# Altium footprint library SMD Mechanical.PcbLib: 17 footprints (part 1 of 2)
Each footprint in its own frame and in the unit in brackets; x right, y up, seen from the top. Pads: shape width x height; smd on the part's side, far side on the other; paste and mask are expansions set on the pad; w line width, h text height; cw(c..) or ccw(c..) is an arc to the next point about the centre after c.
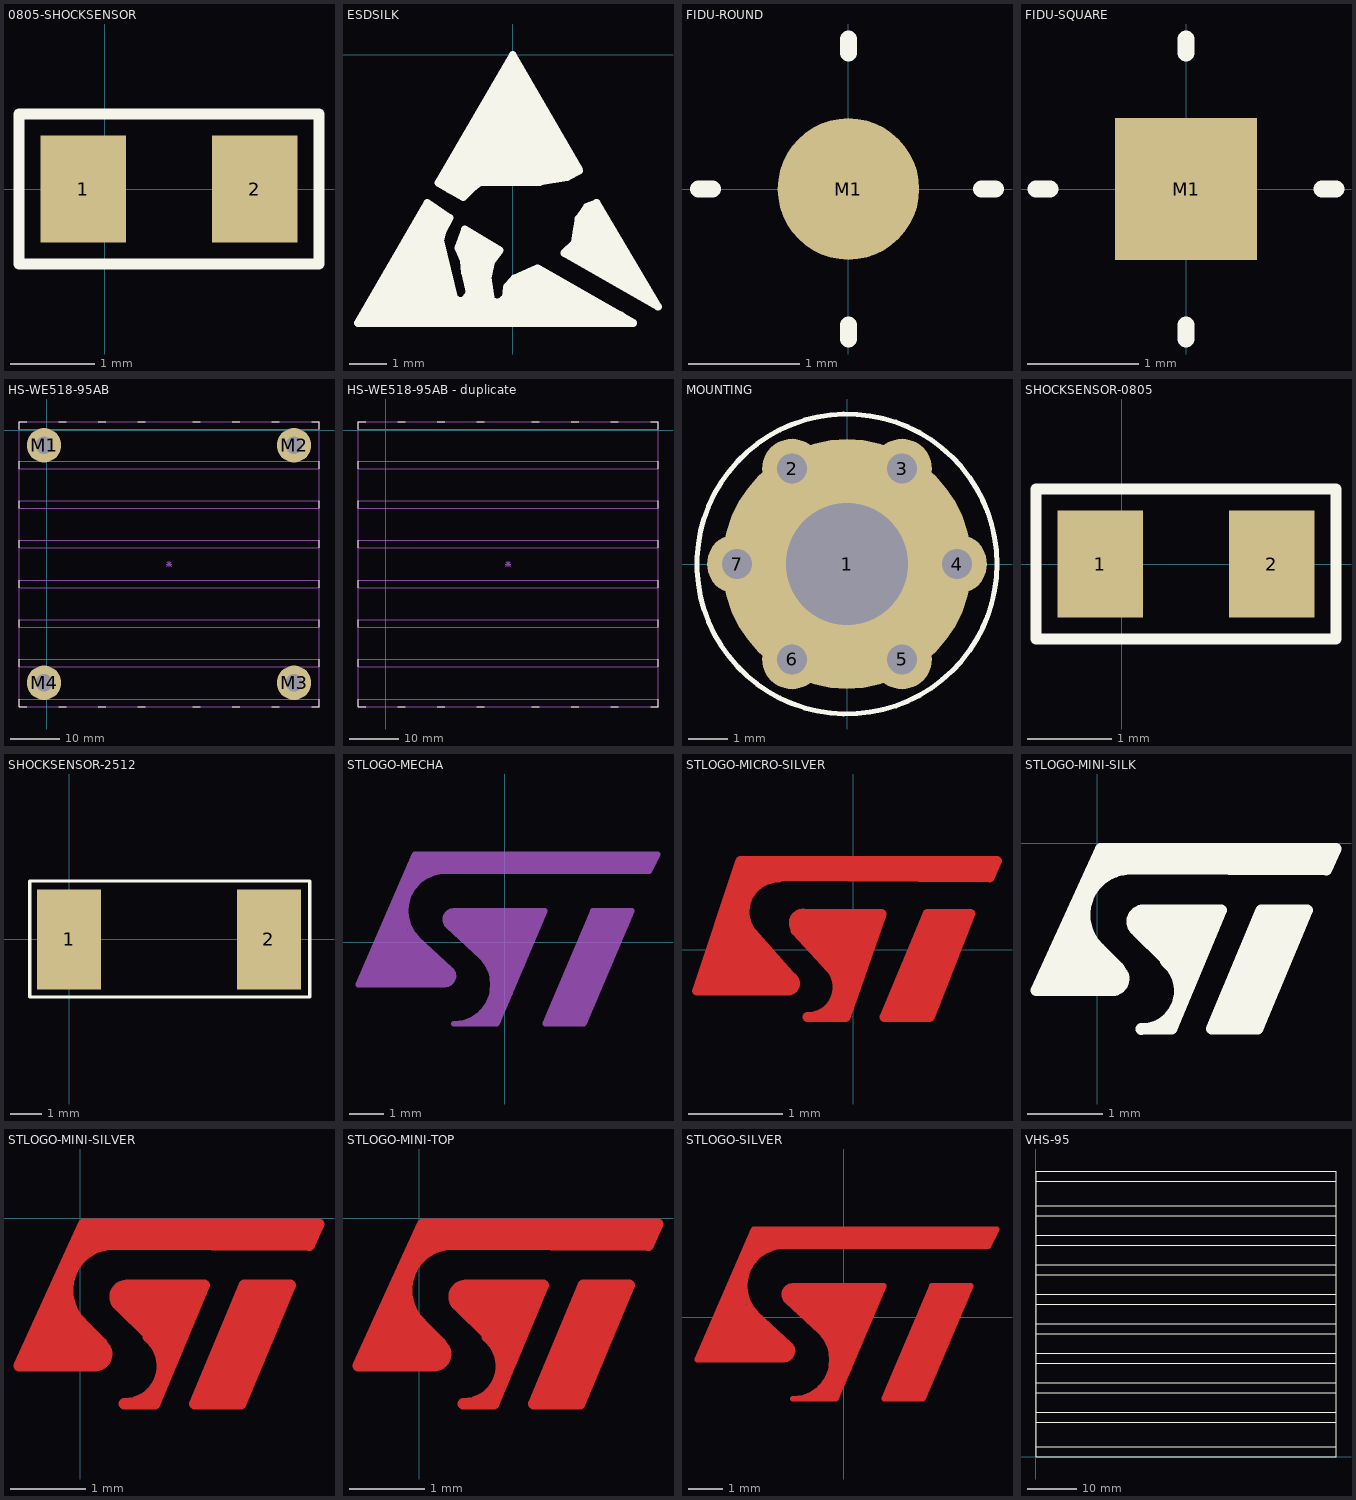
[diagram p0: the footprints below, top view; thin cyan lines are the x and y axes]

## 0805-SHOCKSENSOR [mil] "SHOCKSENSOR"
pads (2):
  rect 40x50 smd: 1(-10,0) 2(70,0)
Top Overlay:
  lines w5: -40,-35 100,-35 100,35 -40,35 -40,-35
3D body: height 30, standoff 0, extent 68,-25 84,25
3D body: height 29, standoff 28, extent 20,-22 69,22
3D body: height 30, standoff 0, extent -24,-25 -8,25
3D body: height 28, standoff 0, extent -10,-24 69,24
3D body: height 29, standoff 28, extent -12.5,-20 36.5,-11
3D body: height 29, standoff 28, extent 0,7 10,17
3D body: height 29, standoff 28, extent -2.08,4.92 12.08,19.08

## ESDSILK [mil]
Top Overlay:
  lines w8: -163.5,-283.19 -90.5,-156.19 -66.5,-172.19 -74.5,-187.19 -76.5,-196.19 -61.5,-257.19 -55.5,-260.19 -50.5,-258.19 -45.5,-251.19 -50.5,-230.19 -51.5,-217.19 -57.5,-204.19 -50.5,-184.19 -13.5,-206.19 -22.5,-218.19 -26.5,-235.19 -22.5,-260.19 -13.5,-261.19 -7.5,-256.19 -6.5,-245.19 1.5,-236.19 26.5,-225.19 127.5,-283.19 -163.5,-283.19 ; -78.5,-135.19 0,0 70.5,-122.19 57.5,-129.19 28.5,-134.19 -35.5,-135.19 -44.5,-142.19 -52.5,-150.19 -78.5,-135.19 ; 54.5,-209.19 153.5,-266.19 88.5,-156.19 78.5,-160.19 69.5,-173.19 67.5,-184.19 65.5,-198.19 54.5,-209.19
  lines w15: 91.5,-273.19 112.5,-278.19 ; 125.5,-239.19 141.5,-253.19
  lines w25: -115.5,-259.19 -96.5,-226.19 -88.5,-273.19 -145.5,-273.19 -83.5,-172.19 -80.5,-179.19 -87.5,-193.19 -70.5,-271.19 -41.5,-271.19 ; -30.5,-208.19 -45.5,-201.19 -37.5,-219.19 -36.5,-264.19 -22.5,-273.19 1.5,-264.19 8.5,-248.19 26.5,-239.19 91.5,-273.19 ; -10.5,-273.19 68.5,-272.19 22.5,-258.19 ; -4.5,-88.19 22.5,-91.19 -1.5,-55.19 -33.5,-106.19 48.5,-110.19 0.5,-18.19 -63.5,-134.19 -53.5,-135.19 -35.5,-123.19 54.5,-118.19 ; 84.5,-171.19 71.5,-208.19 125.5,-239.19 88.5,-186.19

## FIDU-ROUND [mil]
pads (1):
  round 50 smd: M1(0,0)
Top Overlay:
  lines w6: -53,0 -48,0 ; 0,-53 0,-48 ; 0,48 0,53 ; 47,0 52,0

## FIDU-SQUARE [mil]
pads (1):
  rect 50x50 smd: M1(0,0)
Top Overlay:
  lines w6: -53,0 -48,0 ; 0,-53 0,-48 ; 0,48 0,53 ; 48,0 53,0

## HS-WE518-95AB [mm]
pads (4):
  round 7 hole 3.5: M1(-0.508,-3.048) M2(50.292,-3.048) M3(50.292,-51.308) M4(-0.508,-51.308)
Top Overlay:
  lines w0.203: -5.588,-54.61 -5.588,-56.134 -4.064,-56.134 ; -5.588,-48.057 -5.588,-46.533 ; -5.588,-40.005 -5.588,-38.481 ; -5.588,-31.953 -5.588,-30.429 ; -5.588,-23.901 -5.588,-22.377 ; -5.588,-15.85 -5.588,-14.326 ; -5.588,-7.798 -5.588,-6.274 ; -5.588,0.254 -5.588,1.778 -4.064,1.778 ; 2.464,-56.134 3.988,-56.134 ; 2.464,1.778 3.988,1.778 ; 10.516,-56.134 12.04,-56.134 ; 10.516,1.778 12.04,1.778 ; 18.567,-56.134 20.091,-56.134 ; 18.567,1.778 20.091,1.778 ; 29.693,-56.134 31.217,-56.134 ; 29.693,1.778 31.217,1.778 ; 37.744,-56.134 39.268,-56.134 ; 37.744,1.778 39.268,1.778 ; 45.796,-56.134 47.32,-56.134 ; 45.796,1.778 47.32,1.778 ; 53.848,-56.134 55.372,-56.134 55.372,-54.61 ; 53.848,1.778 55.372,1.778 55.372,0.254 ; 55.372,-48.057 55.372,-46.533 ; 55.372,-40.005 55.372,-38.481 ; 55.372,-31.953 55.372,-30.429 ; 55.372,-23.901 55.372,-22.377 ; 55.372,-15.85 55.372,-14.326 ; 55.372,-7.798 55.372,-6.274
Mechanical 1:
  lines w0.203: -5.588,-54.61 55.372,-54.61 ; -5.588,-48.057 55.372,-48.057 ; -5.588,-46.533 55.372,-46.533 ; -5.588,-40.005 55.372,-40.005 ; -5.588,-38.481 55.372,-38.481 ; -5.588,-31.953 55.372,-31.953 ; -5.588,-30.429 55.372,-30.429 ; -5.588,-23.901 55.372,-23.901 ; -5.588,-22.377 55.372,-22.377 ; -5.588,-15.85 55.372,-15.85 ; -5.588,-14.326 55.372,-14.326 ; -5.588,-7.798 55.372,-7.798 ; -5.588,-6.274 55.372,-6.274 ; -5.588,0.254 55.372,0.254 55.372,1.778 ; 24.308,-27.178 24.892,-27.178 ; 24.479,-27.591 24.892,-27.178 ; 24.479,-26.765 24.892,-27.178 ; 24.892,-27.762 24.892,-27.178 ; 24.892,-26.594 24.892,-27.178 ; 25.305,-27.591 24.892,-27.178 ; 25.305,-26.765 24.892,-27.178 ; 25.476,-27.178 24.892,-27.178 ; -5.588,-56.134 -5.588,1.778 55.372,1.778 ; -5.588,-56.134 55.372,-56.134 ; -5.588,-56.134 55.372,-56.134 ; 55.372,-56.134 55.372,1.778
  text "Model 518-95AB" at -1.981,-11.1 h0.89
  text "Wakefield Engineering" at -1.981,-9.525 h0.89

## HS-WE518-95AB - duplicate [mil]
Top Overlay:
  lines w8: -220,-2150 -220,-2210 -160,-2210 ; -220,-1892 -220,-1832 ; -220,-1575 -220,-1515 ; -220,-1258 -220,-1198 ; -220,-941 -220,-881 ; -220,-624 -220,-564 ; -220,-307 -220,-247 ; -220,10 -220,70 -160,70 ; 97,-2210 157,-2210 ; 97,70 157,70 ; 414,-2210 474,-2210 ; 414,70 474,70 ; 731,-2210 791,-2210 ; 731,70 791,70 ; 1169,-2210 1229,-2210 ; 1169,70 1229,70 ; 1486,-2210 1546,-2210 ; 1486,70 1546,70 ; 1803,-2210 1863,-2210 ; 1803,70 1863,70 ; 2120,-2210 2180,-2210 2180,-2150 ; 2120,70 2180,70 2180,10 ; 2180,-1892 2180,-1832 ; 2180,-1575 2180,-1515 ; 2180,-1258 2180,-1198 ; 2180,-941 2180,-881 ; 2180,-624 2180,-564 ; 2180,-307 2180,-247
Mechanical 1:
  lines w8: -220,-2150 2180,-2150 ; -220,-1892 2180,-1892 ; -220,-1832 2180,-1832 ; -220,-1575 2180,-1575 ; -220,-1515 2180,-1515 ; -220,-1258 2180,-1258 ; -220,-1198 2180,-1198 ; -220,-941 2180,-941 ; -220,-881 2180,-881 ; -220,-624 2180,-624 ; -220,-564 2180,-564 ; -220,-307 2180,-307 ; -220,-247 2180,-247 ; -220,10 2180,10 2180,70 ; 957,-1070 980,-1070 ; 963.74,-1086.26 980,-1070 ; 963.74,-1053.74 980,-1070 ; 980,-1093 980,-1070 ; 980,-1047 980,-1070 ; 996.26,-1086.26 980,-1070 ; 996.26,-1053.74 980,-1070 ; 1003,-1070 980,-1070 ; -220,-2210 -220,70 2180,70 ; -220,-2210 2180,-2210 ; -220,-2210 2180,-2210 ; 2180,-2210 2180,70
  text "Model 518-95AB" at -78,-437 h35
  text "Wakefield Engineering" at -78,-375 h35

## MOUNTING [mil]
pads (7):
  round 250 hole 122.05: 1(0,0)
  round 60 hole 30: 2(-55,95.26) 3(55,95.26) 4(110,0) 5(55,-95.26) 6(-55,-95.26) 7(-110,0)
Top Overlay:
  circle w5: c0,0 r150

## SHOCKSENSOR-0805 [mil] "SHOCKSENSOR"
pads (2):
  rect 40x50 smd: 1(-10,0) 2(70,0)
Top Overlay:
  lines w5: -40,-35 -40,35 100,35 100,-35 -40,-35
3D body: height 29, standoff 28, extent -2.08,4.92 12.08,19.08
3D body: height 29, standoff 28, extent 0,7 10,17
3D body: height 29, standoff 28, extent -12.5,-20 36.5,-11
3D body: height 28, standoff 0, extent -10,-24 69,24
3D body: height 30, standoff 0, extent -24,-25 -8,25
3D body: height 29, standoff 28, extent 20,-22 69,22
3D body: height 30, standoff 0, extent 68,-25 84,25

## SHOCKSENSOR-2512 [mil] "SHOCKSENSOR"
pads (2):
  rect 80x125 smd: 1(0,0) 2(250,0)
Top Overlay:
  lines w4: -49,-72 301,-72 301,73 -49,73 -49,-12.32 -49,-71 -49,-72
3D body: height 29, standoff 28, extent 35.92,36.92 50.08,51.08
3D body: height 29, standoff 28, extent 38,39 48,49
3D body: height 29, standoff 28, extent 47,-50 123.5,-41
3D body: height 28, standoff 0, extent 23,-60 231,60
3D body: height 30, standoff 0, extent -5,-61 23,61
3D body: height 29, standoff 28, extent 123,-58 231,58
3D body: height 30, standoff 0, extent 231,-61 259,61

## STLOGO-MECHA [mil]
Mechanical 1:
  lines w6: -149,-49 -169,-49 ; -34,-89 -9,-89 -9,-84 -29,-84 -24,-79 -4,-79 -4,-74 -19,-74 -14,-69 1,-69 1,-64 -14,-64 -9,-59 6,-59 6,-54 -9,-54 -9,-49 6,-49 ; 51,-94 106,36 86,-94 141,36 81,-94 ; 166,86 -109,86 -104,91 171,91 171,96 -104,96 -164,-49 -104,86 -159,-49 -99,86 -104,71 -94,86 -74,81 -94,81 -94,76 -99,71 -114,56 -119,31 -154,-49 -64,-44 -149,-44 ; -169,-49 -69,-49 ccw(c-69,-39) -62.31,-31.57 -100.82,4.18 cw(c-69,36) -69,81 166,81 176,101 -104,101 -169,-49 ; -149,-44 -64,-39 -144,-39 -64,-34 -144,-34 -69,-29 -144,-29 -74,-24 -139,-24 -79,-19 -139,-19 -84,-14 -139,-14 -89,-9 -134,-9 -94,-4 -134,-4 -99,1 -129,1 -104,6 -129,6 -109,11 -124,11 -114,16 -124,16 -114,21 -119,21 -114,26 -119,26 -149,-44 ; -59,16 36,16 31,11 -49,11 -49,6 31,6 31,1 -39,1 -39,-4 26,-4 26,-9 -29,-9 -29,-14 21,-14 21,-19 -19,-19 ; -59,16 -64,21 36,21 41,26 -69,26 -64,31 41,31 -54,16 -19,-19 ; -59,16 -19,-19 ; -59,16 -9,-29 -14,-39 -9,-64 16,-29 ; -19,-19 -19,-24 16,-24 16,-29 ; 6,-49 6,-44 -9,-44 -9,-39 11,-39 11,-34 -14,-34 -14,-29 16,-29 ; 6,-49 16,-29 ; 81,-94 136,36 91,-94 ; 81,-94 131,36 76,-94 126,36 71,-94 121,36 66,-94 116,36 61,-94 111,36 56,-94 101,36 ; 91,-94 46,-94 101,36 ; 91,-94 146,36 101,36 ; -65.69,18.57 cw(c-59,26) -59,36 46,36 -9,-94 -59,-94 ccw(c-59,-49) -27.18,-17.18 -65.69,18.57

## STLOGO-MICRO-SILVER [mil]
Top Layer:
  lines w4: -42,7 -25,-12 ; -41.32,6.15 cw(c-31,15.84) -31,30 ; -31.56,30.58 57,30 60,37 -47,37 -65,-17 -27,-17 ccw(c-27.07,-14) -25.4,-11.5 ; -24,8 -9.25,-7.75 ; -23,8 cw(c-20.84,11.23) -20.84,15.12 ; -21,15 12,15 -3,-28 -19,-28 ; -18.99,-27.97 ccw(c-18.87,-15.57) -11,-6 ; 13,-28 31,15 49,15 32,-28 13,-28
  lines w6: -48,-4 -44,-6 -52,-7 -49,4 -35,-10 -58,-11 -43,31 -38,31 -41,31 -47,20 -48,9 -27,-14 -62,-14 -45,34 57,33 ; -19,11 7,11 -6,-25 -4,-12 -22,11 2,6 -4,-6 -14,6 -3,2 -3,1 ; 32,12 45,12 30,-25 18,-25 31,7 39,7 27,-21 23,-21 34,4
Top Solder:
  lines w4: -42,7 -25,-12 ; -41.32,6.15 cw(c-31,15.84) -31,30 ; -31.56,30.58 57,30 60,37 -47,37 -65,-17 -27,-17 ccw(c-27.07,-14) -25.4,-11.5 ; -24,8 -9.25,-7.75 ; -23,8 cw(c-20.84,11.23) -20.84,15.12 ; -21,15 12,15 -3,-28 -19,-28 ; -18.99,-27.97 ccw(c-18.87,-15.57) -11,-6 ; 13,-28 32,-28 49,15 31,15 13,-28
  lines w6: -48,-4 -44,-6 -52,-7 -49,4 -35,-10 -58,-11 -43,31 -38,31 -41,31 -47,20 -48,9 -27,-14 -62,-14 -45,34 57,33 ; -19,11 7,11 -6,-25 -4,-12 -22,11 2,6 -4,-6 -14,6 -3,2 -3,1 ; 32,12 45,12 30,-25 18,-25 31,7 39,7 27,-21 23,-21 34,4

## STLOGO-MINI-SILK [mil]
Top Overlay:
  lines w6: -11,-63 -5,-66 -15,-67 -10,-52 -7,-61 4,-70 -20,-71 -11,-42 -4,-58 8,-69 8,-74 -26,-74 -7,-28 ; 2,-3 -32,-77 8,-77 ccw(c7.87,-71) 11.2,-66.01 11.2,-65.2 1,-55 cw(c17.44,-37.46) 17.44,-13.42 ; 4,-13 -1,-12 -6,-23 11,-11 ; 23,-97.23 ccw(c23.2,-77.23) 35.89,-61.78 ; 23,-97 39,-97 65,-35 40,-35 24.33,-35.01 ccw(c24.33,-41.01) 21,-46 35.75,-60.75 ; 25,-13 17.44,-13.42 ; 43,-50 42,-53 37,-46 48,-47 43,-61 28,-43 54,-43 45,-69 26,-47 22,-40 24,-39 60,-39 46,-74 ; 107,-37 86,-91 102,-38 82,-95 98,-38 77,-94 93,-38 72,-95 89,-37 66,-96 86,-35 ; 122,-9 0,-9 3,-3 125,-3 120,-14 17.44,-13.42 ; 86,-35 60,-97 84,-97 110,-35 86,-35

## STLOGO-MINI-SILVER [mil]
Top Layer:
  lines w6: -11,-63 -5,-66 -15,-67 -10,-52 -7,-61 4,-70 -20,-71 -11,-42 -4,-58 8,-69 8,-74 -26,-74 -7,-28 ; 2,-3 -32,-77 8,-77 ccw(c7.87,-71) 11.2,-66.01 11.2,-65.2 1,-55 cw(c17.44,-37.46) 17.44,-13.42 ; 4,-13 -1,-12 -6,-23 11,-11 ; 25,-13 17.44,-13.42 ; 35.75,-61.95 cw(c23.2,-77.23) 23,-97 39,-97 65,-35 40,-35 24.33,-35.01 ccw(c24.33,-41.01) 21,-46 35.75,-60.75 ; 43,-50 42,-53 37,-46 48,-47 43,-61 28,-43 54,-43 45,-69 26,-47 22,-40 24,-39 60,-39 46,-74 ; 107,-37 86,-91 102,-38 82,-95 98,-38 77,-94 93,-38 72,-95 89,-37 66,-96 86,-35 ; 122,-9 0,-9 3,-3 125,-3 120,-14 17.44,-13.42 ; 86,-35 60,-97 84,-97 110,-35 86,-35
Top Solder:
  lines w6: -11,-63 -5,-66 -15,-67 -10,-52 -7,-61 4,-70 -20,-71 -11,-42 -4,-58 8,-69 8,-74 -26,-74 -7,-28 ; 2,-3 -32,-77 8,-77 ccw(c7.87,-71) 11.2,-66.01 11.2,-65.2 1,-55 cw(c17.44,-37.46) 17.44,-13.42 ; 4,-13 -1,-12 -6,-23 11,-11 ; 25,-13 17.44,-13.42 ; 35.75,-61.95 cw(c23.2,-77.23) 23,-97 39,-97 65,-35 40,-35 24.33,-35.01 ccw(c24.33,-41.01) 21,-46 35.75,-60.75 ; 43,-50 42,-53 37,-46 48,-47 43,-61 28,-43 54,-43 45,-69 26,-47 22,-40 24,-39 60,-39 46,-74 ; 107,-37 86,-91 102,-38 82,-95 98,-38 77,-94 93,-38 72,-95 89,-37 66,-96 86,-35 ; 122,-9 0,-9 3,-3 125,-3 120,-14 17.44,-13.42 ; 86,-35 60,-97 84,-97 110,-35 86,-35

## STLOGO-MINI-TOP [mil]
Top Layer:
  lines w6: -11,-63 -5,-66 -15,-67 -10,-52 -7,-61 4,-70 -20,-71 -11,-42 -4,-58 8,-69 8,-74 -26,-74 -7,-28 ; 2,-3 -32,-77 8,-77 ccw(c7.87,-71) 11.2,-66.01 11.2,-65.2 1,-55 cw(c17.44,-37.46) 17.44,-13.42 ; 4,-13 -1,-12 -6,-23 11,-11 ; 25,-13 17.44,-13.42 ; 35.75,-61.95 cw(c23.2,-77.23) 23,-97 39,-97 65,-35 40,-35 24.33,-35.01 ccw(c24.33,-41.01) 21,-46 35.75,-60.75 ; 43,-50 42,-53 37,-46 48,-47 43,-61 28,-43 54,-43 45,-69 26,-47 22,-40 24,-39 60,-39 46,-74 ; 107,-37 86,-91 102,-38 82,-95 98,-38 77,-94 93,-38 72,-95 89,-37 66,-96 86,-35 ; 122,-9 0,-9 3,-3 125,-3 120,-14 17.44,-13.42 ; 86,-35 110,-35 84,-97 60,-97 86,-35

## STLOGO-SILVER [mil]
Top Layer:
  lines w6: -149,-49 -169,-49 ; -34,-89 -9,-89 -9,-84 -29,-84 -24,-79 -4,-79 -4,-74 -19,-74 -14,-69 1,-69 1,-64 -14,-64 -9,-59 6,-59 6,-54 -9,-54 -9,-49 6,-49 ; 51,-94 106,36 86,-94 141,36 81,-94 ; 166,86 -109,86 -104,91 171,91 171,96 -104,96 -164,-49 -104,86 -159,-49 -99,86 -104,71 -94,86 -74,81 -94,81 -94,76 -99,71 -114,56 -119,31 -154,-49 -64,-44 -149,-44 ; -169,-49 -69,-49 ccw(c-69,-39) -62.31,-31.57 -100.82,4.18 cw(c-69,36) -69,81 166,81 176,101 -104,101 -169,-49 ; -149,-44 -64,-39 -144,-39 -64,-34 -144,-34 -69,-29 -144,-29 -74,-24 -139,-24 -79,-19 -139,-19 -84,-14 -139,-14 -89,-9 -134,-9 -94,-4 -134,-4 -99,1 -129,1 -104,6 -129,6 -109,11 -124,11 -114,16 -124,16 -114,21 -119,21 -114,26 -119,26 -149,-44 ; -59,16 36,16 31,11 -49,11 -49,6 31,6 31,1 -39,1 -39,-4 26,-4 26,-9 -29,-9 -29,-14 21,-14 21,-19 -19,-19 ; -59,16 -64,21 36,21 41,26 -69,26 -64,31 41,31 -54,16 -19,-19 ; -59,16 -19,-19 ; -59,16 -9,-29 -14,-39 -9,-64 16,-29 ; -19,-19 -19,-24 16,-24 16,-29 ; 6,-49 6,-44 -9,-44 -9,-39 11,-39 11,-34 -14,-34 -14,-29 16,-29 ; 6,-49 16,-29 ; 81,-94 136,36 91,-94 ; 81,-94 131,36 76,-94 126,36 71,-94 121,36 66,-94 116,36 61,-94 111,36 56,-94 101,36 ; 91,-94 46,-94 101,36 ; 91,-94 146,36 101,36 ; -65.69,18.57 cw(c-59,26) -59,36 46,36 -9,-94 -59,-94 ccw(c-59,-49) -27.18,-17.18 -65.69,18.57
Top Solder:
  lines w6: -149,-49 -169,-49 ; -34,-89 -9,-89 -9,-84 -29,-84 -24,-79 -4,-79 -4,-74 -19,-74 -14,-69 1,-69 1,-64 -14,-64 -9,-59 6,-59 6,-54 -9,-54 -9,-49 6,-49 ; 51,-94 106,36 86,-94 141,36 81,-94 ; 166,86 -109,86 -104,91 171,91 171,96 -104,96 -164,-49 -104,86 -159,-49 -99,86 -104,71 -94,86 -74,81 -94,81 -94,76 -99,71 -114,56 -119,31 -154,-49 -64,-44 -149,-44 ; -169,-49 -69,-49 ccw(c-69,-39) -62.31,-31.57 -100.82,4.18 cw(c-69,36) -69,81 166,81 176,101 -104,101 -169,-49 ; -149,-44 -64,-39 -144,-39 -64,-34 -144,-34 -69,-29 -144,-29 -74,-24 -139,-24 -79,-19 -139,-19 -84,-14 -139,-14 -89,-9 -134,-9 -94,-4 -134,-4 -99,1 -129,1 -104,6 -129,6 -109,11 -124,11 -114,16 -124,16 -114,21 -119,21 -114,26 -119,26 -149,-44 ; -59,16 36,16 31,11 -49,11 -49,6 31,6 31,1 -39,1 -39,-4 26,-4 26,-9 -29,-9 -29,-14 21,-14 21,-19 -19,-19 ; -59,16 -64,21 36,21 41,26 -69,26 -64,31 41,31 -54,16 -19,-19 ; -59,16 -19,-19 ; -59,16 -9,-29 -14,-39 -9,-64 16,-29 ; -19,-19 -19,-24 16,-24 16,-29 ; 6,-49 6,-44 -9,-44 -9,-39 11,-39 11,-34 -14,-34 -14,-29 16,-29 ; 6,-49 16,-29 ; 81,-94 136,36 91,-94 ; 81,-94 131,36 76,-94 126,36 71,-94 121,36 66,-94 116,36 61,-94 111,36 56,-94 101,36 ; 91,-94 46,-94 101,36 ; 91,-94 146,36 101,36 ; -65.69,18.57 cw(c-59,26) -59,36 46,36 -9,-94 -59,-94 ccw(c-59,-49) -27.18,-17.18 -65.69,18.57

## VHS-95 [mil] "HALF BRICK CONVERTER HEATSINK"
Top Overlay:
  lines w4: 2401.88,2204.61 0.31,2204.61 0.31,2283.35 ; 0.31,-0.11 2401.88,-0.11 ; 0.31,-0.11 0.31,2283.35 ; 0.31,-0.11 0.31,78.63 2401.88,78.63 2401.88,-0.11 ; 0.31,590.44 2401.88,590.44 2401.88,511.7 0.31,511.7 0.31,590.44 ; 0.31,590.44 0.31,826.66 ; 0.31,826.66 2401.88,826.66 2401.88,747.92 0.31,747.92 0.31,826.66 ; 0.31,2283.35 2401.88,2283.35 2401.88,-0.11 ; 0.31,275.48 0.31,354.22 2401.88,354.22 2401.88,275.48 0.31,275.48 ; 0.31,984.14 0.31,1062.88 2401.88,1062.88 2401.88,984.14 0.31,984.14 ; 0.31,1220.36 0.31,1299.1 2401.88,1299.1 2401.88,1220.36 0.31,1220.36 ; 0.31,1456.58 0.31,1535.32 2401.88,1535.32 2401.88,1456.58 0.31,1456.58 ; 0.31,1692.8 0.31,1771.54 2401.88,1771.54 2401.88,1692.8 0.31,1692.8 ; 0.31,1929.02 0.31,2007.76 2401.88,2007.76 2401.88,1929.02 0.31,1929.02
3D body: height 944.88, standoff 0, extent 0,2204.72 2401.57,2283.46
3D body: height 118.11, standoff 0, extent 0,0 2401.57,2283.46
3D body: height 944.88, standoff 0, extent 0,1929.13 2401.57,2007.87
3D body: height 944.88, standoff 0, extent 0,1692.91 2401.57,1771.65
3D body: height 944.88, standoff 0, extent 0,1456.69 2401.57,1535.43
3D body: height 944.88, standoff 0, extent 0,1220.47 2401.57,1299.21
3D body: height 944.88, standoff 0, extent 0,984.25 2401.57,1062.99
3D body: height 944.88, standoff 0, extent 0,748.03 2401.57,826.77
3D body: height 944.88, standoff 0, extent 0,511.81 2401.57,590.55
3D body: height 944.88, standoff 0, extent 0,275.59 2401.57,354.33
3D body: height 944.88, standoff 0, extent 0,0 2401.57,78.74